# EAGLE library part LM2574M_ADJ (library stabilizatory)
VOLTAGE REGULATOR
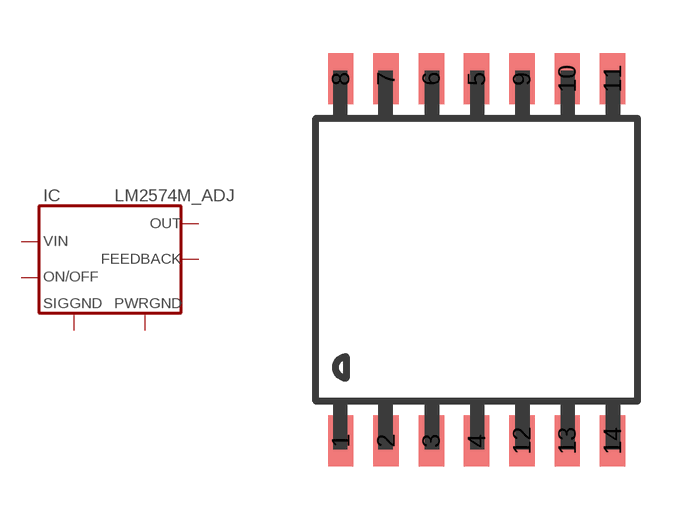
[diagram p19: symbol with the pads of SO14; footprint SO14]

Designator prefix IC

## LM2574M_ADJ  [SO14]
3  FEEDBACK  pas
4  SIGGND  in
5  ON/OFF  in
6  PWRGND  in
10  VIN  in
12  OUT  pas

## Footprint SO14 (pad centres in mm)
smd 0.711 x 1.422: 1 -3.81,-5.08; 2 -2.54,-5.08; 3 -1.27,-5.08; 4 0,-5.08; 5 0,5.08; 6 -1.27,5.08; 7 -2.54,5.08; 8 -3.81,5.08; 9 1.27,5.08; 10 2.54,5.08; 11 3.81,5.08; 12 1.27,-5.08; 13 2.54,-5.08; 14 3.81,-5.08